# Altium footprint library ReadCard.PcbLib: 10 footprints
Each footprint in its own frame and in the unit in brackets; x right, y up, seen from the top. Pads: shape width x height; smd on the part's side, far side on the other; paste and mask are expansions set on the pad; w line width, h text height; cw(c..) or ccw(c..) is an arc to the next point about the centre after c.
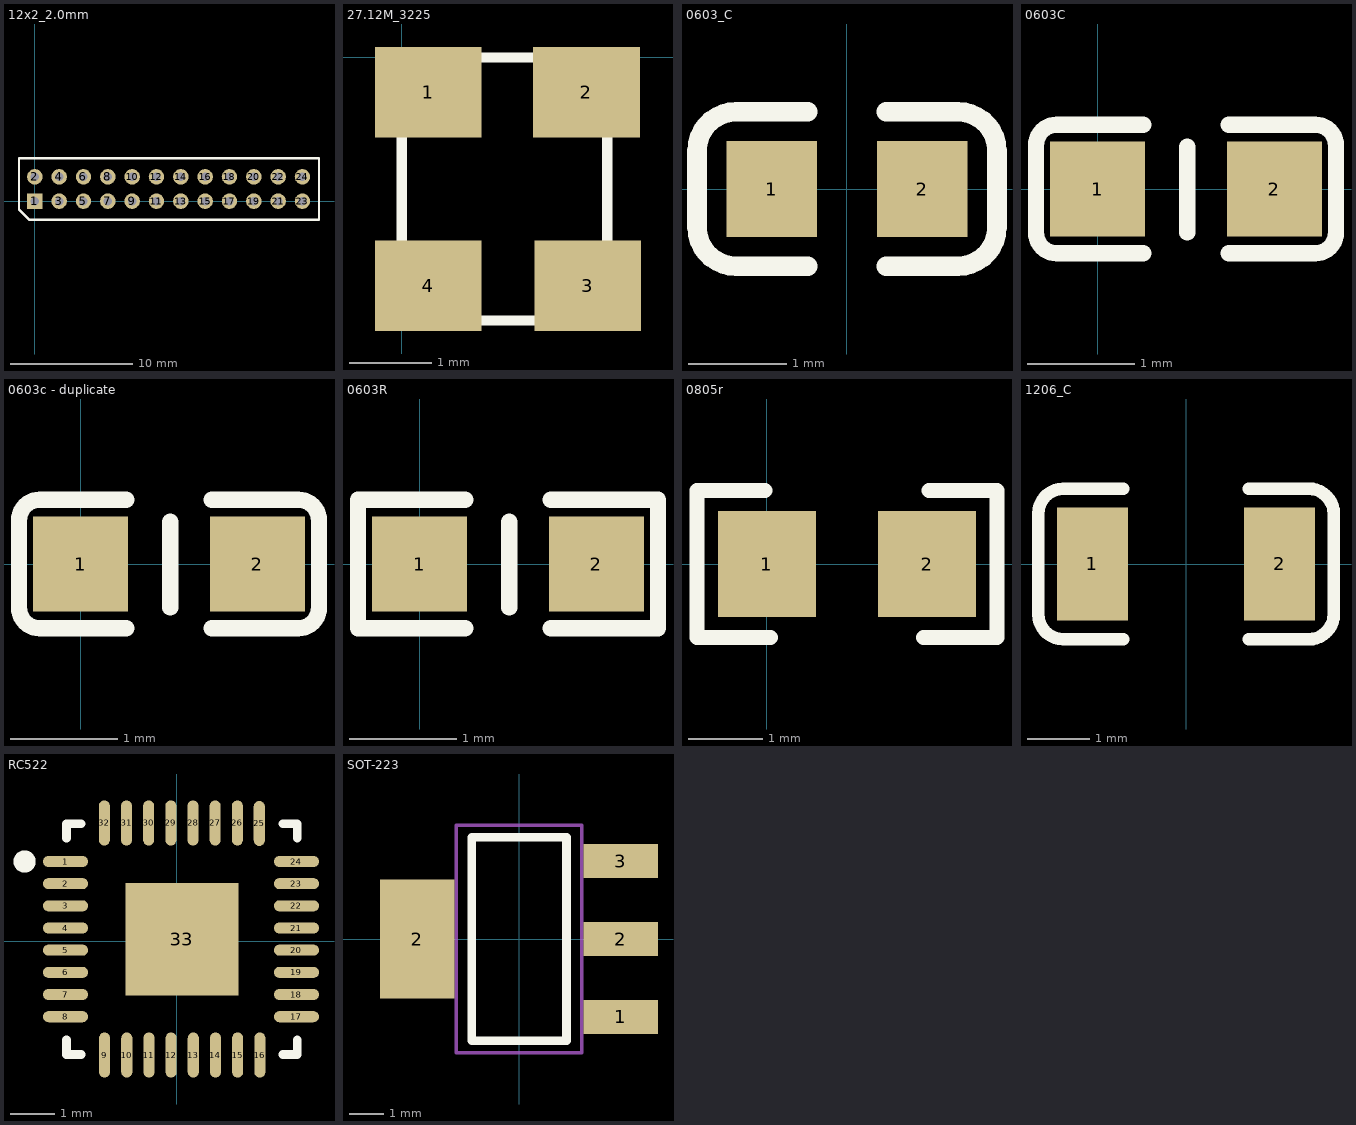
[diagram p0: the footprints below, top view; thin cyan lines are the x and y axes]

## 12x2_2.0mm [mm]
pads (24):
  rect 1.27x1.27 / inner round 1.524 / far side rect 1.27x1.27 hole 0.7: 1(0,0)
  round 1.27 / inner round 1.524 / far side round 1.27 hole 0.7: 2(0,2) 3(2,0) 4(2,2) 5(4,0) 6(4,2) 7(6,0) 8(6,2) 9(8,0) 10(8,2) 11(10,0) 12(10,2) 13(12,0) 14(12,2) 15(14,0) 16(14,2) 17(16,0) 18(16,2) 19(18,0) 20(18,2) 21(20,0) 22(20,2) 23(22,0) 24(22,2)
Top Overlay:
  lines w0.203: -1.3,-0.67 -0.43,-1.54 23.361,-1.54 23.361,3.54 -1.3,3.54 -1.3,-0.67
Mechanical 8:
  text "3" at 2.254,0 h0.64
  text "15" at 14.508,0 h0.64
  text "14" at 12.508,2 h0.64
  text "4" at 2.254,2 h0.64
  text "13" at 12.508,0 h0.64
  text "17" at 16.508,0 h0.64
  text "18" at 16.508,2 h0.64
  text "19" at 18.508,0 h0.64
  text "20" at 18.508,2 h0.64
  text "16" at 14.508,2 h0.64
  text "8" at 6.254,2 h0.64
  text "10" at 8.508,2 h0.64
  text "7" at 6.254,0 h0.64
  text "9" at 8.254,0 h0.64
  text "12" at 10.508,2 h0.64
  text "11" at 10.508,0 h0.64
  text "6" at 4.254,2 h0.64
  text "5" at 4.254,0 h0.64
  text "1" at 0.254,0 h0.64
  text "2" at 0.254,2 h0.64

## 27.12M_3225 [mm]
height 12
pads (4):
  rect 1.3x1.1 smd: 1(0.325,-0.425) 2(2.25,-0.425) 3(2.265,-2.775) 4(0.325,-2.775)
Top Overlay:
  lines w0.127: 0,-3.2 0,0 2.5,0 2.5,-3.2 0,-3.2

## 0603_C [mm]
pads (2):
  rect 0.93x0.98 smd: 1(-0.77,0) 2(0.77,0)
Top Overlay:
  lines w0.2: -0.4,-0.79 -1.135,-0.79 cw(c-1.135,-0.39) -1.535,-0.39 -1.535,0.39 cw(c-1.135,0.39) -1.135,0.79 -0.4,0.79 ; 0.4,-0.79 1.135,-0.79 ccw(c1.135,-0.39) 1.535,-0.39 1.535,0.39 ccw(c1.135,0.39) 1.135,0.79 0.4,0.79
3D body: height 0.3, standoff 0, extent -0.8,-0.4 0.8,0.4

## 0603C [mil]
pads (2):
  rect 35x35 smd: 1(0,0) 2(65,0)
Top Overlay:
  lines w6: 16.75,-23.62 -15,-23.62 cw(c-15,-16) -22.62,-16 -22.62,16 cw(c-15,16) -15,23.62 16.75,23.62 ; 33,-16 33,15.5 ; 48.25,-23.62 80,-23.62 ccw(c80,-16) 87.62,-16 87.62,16 ccw(c80,16) 80,23.62 48.25,23.62

## 0603c - duplicate [mil]
pads (2):
  rect 35x35 smd: 1(0,0) 2(65,0)
Top Overlay:
  lines w6: 16.75,-23.62 -15,-23.62 cw(c-15,-16) -22.62,-16 -22.62,16 cw(c-15,16) -15,23.62 16.75,23.62 ; 33,-16 33,15.5 ; 48.25,-23.62 80,-23.62 ccw(c80,-16) 87.62,-16 87.62,16 ccw(c80,16) 80,23.62 48.25,23.62

## 0603R [mil]
height 21.65
pads (2):
  rect 35x35 smd: 1(0,0) 2(65,0)
Top Overlay:
  lines w6: 16.75,-23.62 -22.62,-23.62 -22.62,23.62 16.75,23.62 ; 33,-16 33,15.5 ; 48.24,-23.62 87.61,-23.62 87.61,23.62 48.24,23.62

## 0805r [mil]
pads (2):
  rect 52x56 smd: 1(0,0) 2(85,0)
Top Overlay:
  lines w8: -1,39 -37,39 -37,-39 2,-39 ; 83,-39 122,-39 122,39 86,39

## 1206_C [mm]
pads (2):
  rect 1.13x1.8 smd: 1(-1.49,0) 2(1.49,0)
Top Overlay:
  lines w0.2: -1,-1.2 -1.955,-1.2 cw(c-1.955,-0.8) -2.355,-0.8 -2.355,0.8 cw(c-1.955,0.8) -1.955,1.2 -1,1.2 ; 1,-1.2 1.955,-1.2 ccw(c1.955,-0.8) 2.355,-0.8 2.355,0.8 ccw(c1.955,0.8) 1.955,1.2 1,1.2
3D body: height 1, standoff 0, extent -1.602,-0.813 1.598,0.787

## RC522 [mil]
pads (33):
  oval 40x9.84 smd: 1(-98.67,70.99) 2(-98.67,51.3) 3(-98.67,31.62) 4(-98.67,11.93) 5(-98.67,-7.75) 6(-98.67,-27.44) 7(-98.67,-47.12) 8(-98.67,-66.81) 17(106.34,-66.81) 18(106.34,-47.12) 19(106.34,-27.44) 20(106.34,-7.75) 21(106.34,11.93) 22(106.34,31.62) 23(106.34,51.3) 24(106.34,70.99)
  oval 9.84x40 smd: 9(-64,-100.84) 10(-44.32,-100.84) 11(-24.63,-100.84) 12(-4.95,-100.84) 13(14.74,-100.84) 14(34.42,-100.84) 15(54.11,-100.84) 16(73.79,-100.84) 25(73.32,104.79) 26(53.88,105.22) 27(34.19,105.22) 28(14.51,105.22) 29(-5.18,105.22) 30(-24.86,105.22) 31(-44.55,105.22) 32(-64.23,105.22)
  rect 100x100 smd: 33(4.69,2.09)
Top Overlay:
  circle w9.84: c-135.08,70.99 r4.92
  lines w7.87: -97.68,-87.48 -97.68,-100.27 -84.88,-100.27 ; -97.68,91.66 -97.68,104.45 -84.88,104.45 ; 94.25,-100.27 107.05,-100.27 107.05,-87.48 ; 94.25,104.45 107.05,104.45 107.05,91.66
Mechanical 15:
  lines w3.94: -15,2.09 24.37,2.09 ; 4.68,-17.59 4.68,21.78

## SOT-223 [mm]
pads (4):
  rect 2.2x1 smd: 1(3,-2.3) 2(3,0) 3(3,2.3)
  rect 2.2x3.5 smd: 2(-3,0)
Top Overlay:
  lines w0.254: -1.4,-3 1.4,-3 1.4,3 -1.4,3 -1.4,-3
Mechanical 13:
  lines w0.1: -1.85,-3.35 -1.85,3.35 1.85,3.35 1.85,-3.35 -1.85,-3.35
3D body: height 1.64, standoff -0.04, extent -3.49,-3.242 3.49,3.243